# Altium footprint library grov_pcb_card.PcbLib: 34 footprints (part 2 of 3)
Each footprint in its own frame and in the unit in brackets; x right, y up, seen from the top. Pads: shape width x height; smd on the part's side, far side on the other; paste and mask are expansions set on the pad; w line width, h text height; cw(c..) or ccw(c..) is an arc to the next point about the centre after c.
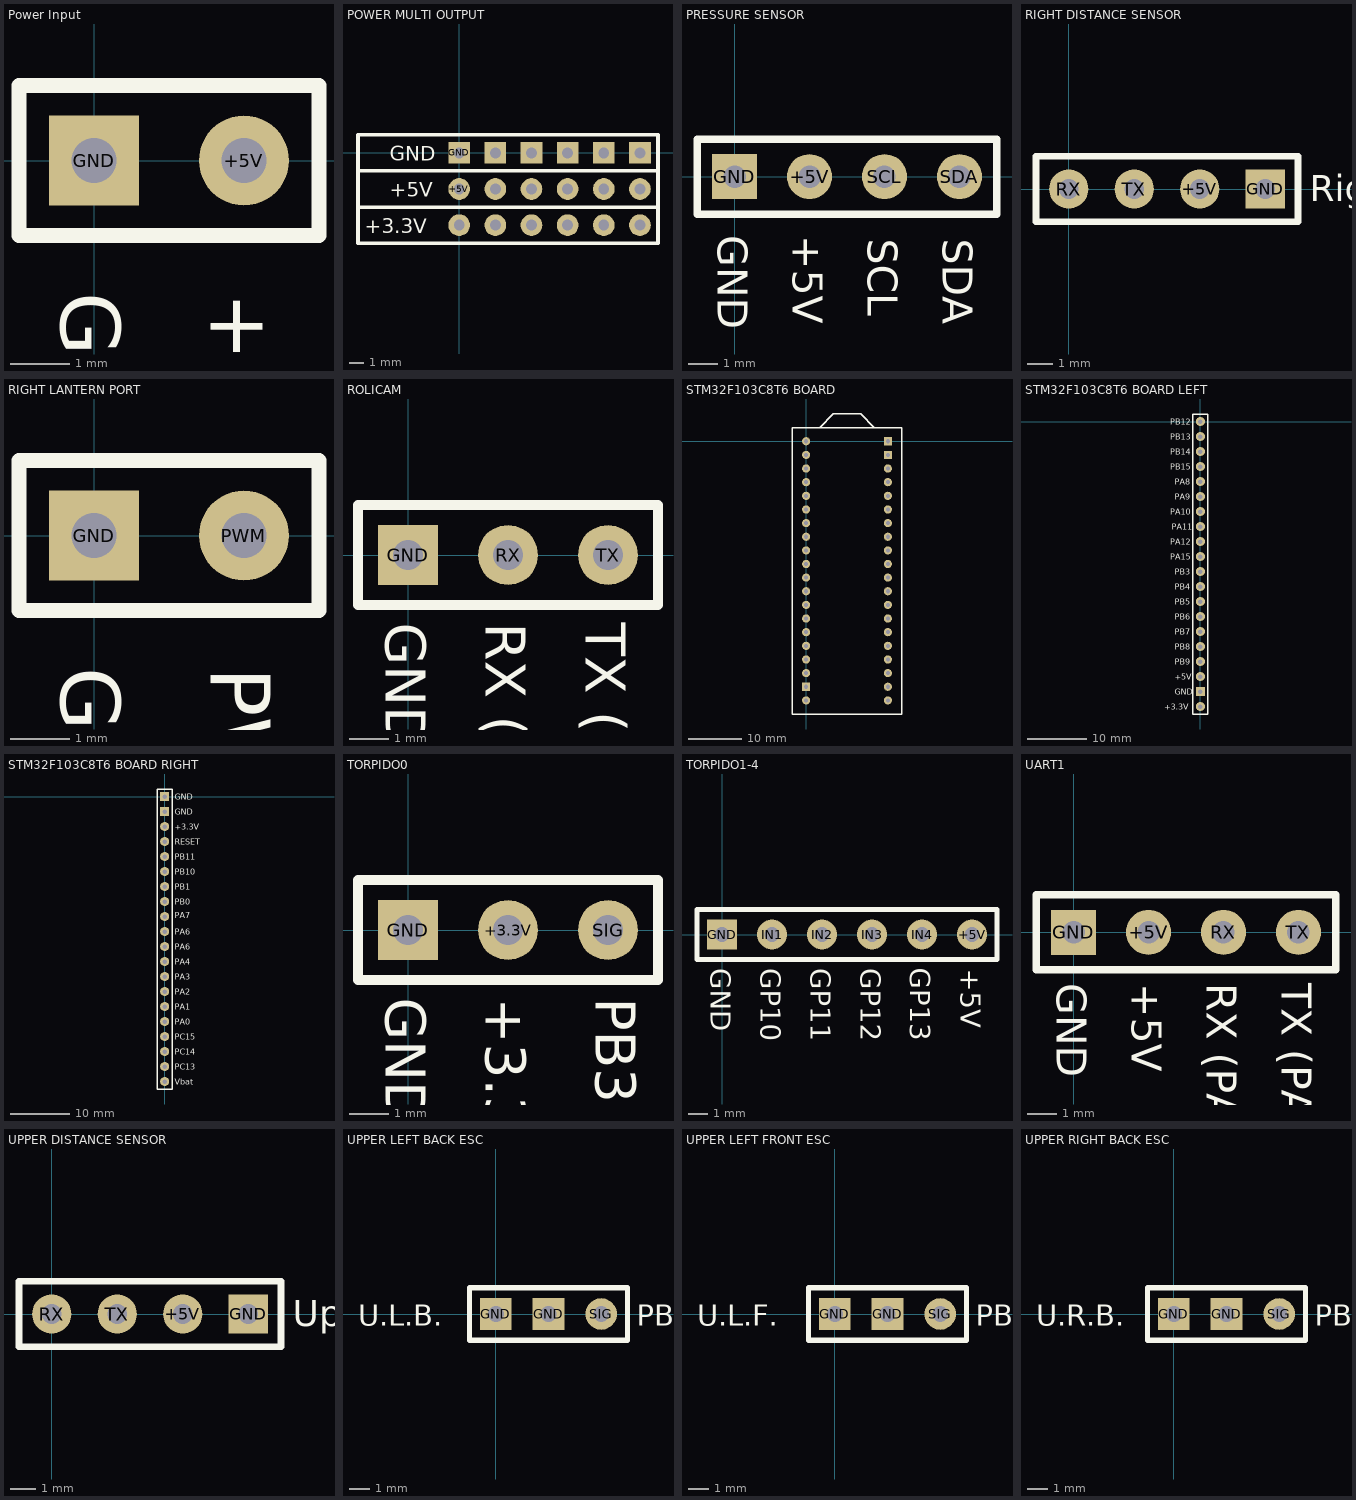
[diagram p1: the footprints below, top view; thin cyan lines are the x and y axes]

## Power Input [mil]
pads (2):
  round 60 hole 30: +5V(100,0)
  rect 60x60 hole 30: GND(0,0)
Top Overlay:
  lines w10: -50,-50 150,-50 150,50 -50,50 -50,-50
  text "GND" at -22,-87.99 h40
  text "+5V" at 78,-88 h40
3D body "2 pin 1 Row 2.54mm Male Pin Header.stp": height 355, standoff -90, extent -50,-50 150,50

## POWER MULTI OUTPUT [mil]
pads (18):
  round 60 hole 30: +3.3V(0,-200) +3.3V_2(100,-200) +3.3V_3(200,-200) +3.3V_4(300,-200) +3.3V_5(400,-200) +3.3V_6(500,-200) +5V(0,-100) +5V_2(100,-100) +5V_3(200,-100) +5V_4(300,-100) +5V_5(400,-100) +5V_6(500,-100)
  rect 60x60 hole 30: GND(0,0) GND_2(100,0) GND_3(200,0) GND_4(300,0) GND_5(400,0) GND_6(500,0)
Top Overlay:
  lines w10: -280,-250 550,-250 ; -280,-250 -280,50 ; -280,-250 -280,-150 ; -280,-250 550,-250 ; -280,-150 550,-150 ; -280,-150 -280,-50 ; -280,-150 550,-150 ; -280,-50 550,-50 ; -280,-50 -280,50 ; -280,-50 550,-50 ; -280,50 550,50 ; -280,50 550,50 ; 550,-250 550,50 ; 550,-250 550,-150 ; 550,-150 550,-50 ; 550,-50 550,50
  text "+3.3V" at -262,-222 h40
  text "+5V" at -192,-122 h40
  text "GND" at -192,-22 h40
3D body "18 pin 3 Row 2.54mm Male Pin Header.stp": height 330, standoff -100, extent -50,-248 550,50

## PRESSURE SENSOR [mil]
pads (4):
  round 60 hole 30: +5V(100,0) SCL(200,0) SDA(300,0)
  rect 60x60 hole 30: GND(0,0)
Top Overlay:
  lines w10: -50,-50 350,-50 350,50 -50,50 -50,-50
  text "GND" at -22,-77.99 h40
  text "+5V" at 78,-78 h40
  text "SDA" at 278,-83 h40
  text "SCL" at 178,-83 h40
3D body "4 pin 1 Row 2.54mm Male Pin Header.stp": height 330, standoff -115, extent -50,-48 350,50

## RIGHT DISTANCE SENSOR [mil]
pads (4):
  round 60 hole 30: +5V(200,0) RX(0,0) TX(100,0)
  rect 60x60 hole 30: GND(300,0)
Top Overlay:
  lines w10: -50,-50 350,-50 350,50 -50,50 -50,-50
  text "Right" at 368,-18.67 h40
3D body "4 pin 1 Row 2.54mm Male Pin Header.stp": height 330, standoff -115, extent -50,-49 350,49

## RIGHT LANTERN PORT [mil]
pads (2):
  rect 60x60 hole 30: GND(0,0)
  round 60 hole 30: PWM(100,0)
Top Overlay:
  lines w10: -50,-50 -50,50 150,50 150,-50 -50,-50
  text "GND" at -22,-87.99 h40
  text "PWM (PB0)" at 78,-88 h40
3D body "2 pin 1 Row 2.54mm Male Pin Header.stp": height 355, standoff -90, extent -50,-50 150,50

## ROLICAM [mil]
pads (3):
  rect 60x60 hole 30: GND(0,0)
  round 60 hole 30: RX(100,0) TX(200,0)
Top Overlay:
  lines w10: -50,-50 250,-50 250,50 -50,50 -50,-50
  text "TX (PB10)" at 178,-68 h40
  text "GND" at -22,-68 h40
  text "RX (PB11)" at 78,-68 h40
3D body "TSW-101-26-L-T.stp": height 330, standoff -126, extent -50,-50 250,50

## STM32F103C8T6 BOARD [mil]
pads (40):
  round 60 hole 30: +3.3V(0,-1900) +3.3V(600,-200) +5V(0,-1700) PA0(600,-1500) PA1(600,-1400) PA2(600,-1300) PA3(600,-1200) PA4(600,-1100) PA5(600,-1000) PA6(600,-900) PA7(600,-800) PA8(0,-400) PA9(0,-500) PA10(0,-600) PA11(0,-700) PA12(0,-800) PA15(0,-900) PB0(600,-700) PB1(600,-600) PB3(0,-1000) PB4(0,-1100) PB5(0,-1200) PB6(0,-1300) PB7(0,-1400) PB8(0,-1500) PB9(0,-1600) PB10(600,-500) PB11(600,-400) PB12(0,0) PB13(0,-100) PB14(0,-200) PB15(0,-300) PC13(600,-1800) PC14(600,-1700) PC15(600,-1600) RESET(600,-300) Vbat(600,-1900)
  rect 60x60 hole 30: GND(0,-1800) GND(600,-100) GND(600,0)
Top Overlay:
  lines w10: 100,100 200,200 400,200 500,100 ; -100,-2000 700,-2000 700,100 -100,100 -100,-2000
3D body "20 pin 1 Row 2.54mm Female Pin Header.STEP": height 250, standoff -140, extent 530,-1950 670,50
3D body "20 pin 1 Row 2.54mm Female Pin Header.STEP": height 250, standoff -140, extent -70,-1950 70,50
3D body "stm32f103c8t6-board.SLDPRT": height 703.27, standoff 33.98, extent -152.76,-2200 752.76,75.59

## STM32F103C8T6 BOARD LEFT [mil]
pads (20):
  round 60 hole 30: +3.3V(0,-1900) +5V(0,-1700) PA8(0,-400) PA9(0,-500) PA10(0,-600) PA11(0,-700) PA12(0,-800) PA15(0,-900) PB3(0,-1000) PB4(0,-1100) PB5(0,-1200) PB6(0,-1300) PB7(0,-1400) PB8(0,-1500) PB9(0,-1600) PB12(0,0) PB13(0,-100) PB14(0,-200) PB15(0,-300)
  rect 60x60 hole 30: GND(0,-1800)
Top Overlay:
  lines w10: -50,-1950 50,-1950 50,50 -50,50 -50,-1950
  text "+3.3V" at -242,-1922 h40
  text "GND" at -172,-1822 h40
  text "+5V" at -172,-1722 h40
  text "PB9" at -172,-1622 h40
  text "PA15" at -202,-922 h40
  text "PA11" at -192,-722 h40
  text "PA10" at -202,-622 h40
  text "PA9" at -172,-522 h40
  text "PA8" at -172,-422 h40
  text "PB15" at -202,-322 h40
  text "PB14" at -202,-222 h40
  text "PB13" at -202,-122 h40
  text "PB12" at -202,-22 h40
  text "PA12" at -202,-822 h40
  text "PB3" at -172,-1022 h40
  text "PB4" at -172,-1122 h40
  text "PB5" at -172,-1222 h40
  text "PB6" at -172,-1322 h40
  text "PB7" at -172,-1422 h40
  text "PB8" at -172,-1522 h40
3D body "20 pin 1 Row 2.54mm Male Pin Header.stp": height 330, standoff -115, extent -49,-1950 49,50

## STM32F103C8T6 BOARD RIGHT [mil]
pads (20):
  round 60 hole 30: +3.3V(0,-200) PA0(0,-1500) PA1(0,-1400) PA2(0,-1300) PA3(0,-1200) PA4(0,-1100) PA5(0,-1000) PA6(0,-900) PA7(0,-800) PB0(0,-700) PB1(0,-600) PB10(0,-500) PB11(0,-400) PC13(0,-1800) PC14(0,-1700) PC15(0,-1600) RESET(0,-300) Vbat(0,-1900)
  rect 60x60 hole 30: GND(0,-100) GND(0,0)
Top Overlay:
  lines w10: -50,-1950 -50,50 50,50 50,-1950 -50,-1950
  text "PA0" at 68,-1522 h40
  text "PA1" at 68,-1422 h40
  text "PA3" at 68,-1222 h40
  text "PA4" at 68,-1122 h40
  text "PA6" at 68,-1022 h40
  text "PB10" at 68,-522 h40
  text "PB11" at 68,-422 h40
  text "RESET" at 68,-322 h40
  text "+3.3V" at 68,-222 h40
  text "GND" at 68,-22 h40
  text "PB1" at 68,-622 h40
  text "PB0" at 68,-722 h40
  text "PA7" at 68,-812 h40
  text "PA6" at 68,-922 h40
  text "GND" at 68,-122 h40
  text "PA2" at 68,-1322 h40
  text "PC15" at 68,-1622 h40
  text "PC14" at 68,-1722 h40
  text "PC13" at 68,-1822 h40
  text "Vbat" at 68,-1922 h40
3D body "20 pin 1 Row 2.54mm Male Pin Header.stp": height 330, standoff -115, extent -49,-1950 49,50

## TORPIDO0 [mil]
pads (3):
  round 60 hole 30: +3.3V(100,0) SIG(200,0)
  rect 60x60 hole 30: GND(0,0)
Top Overlay:
  lines w10: -50,-50 250,-50 250,50 -50,50 -50,-50
  text "GND" at -22,-68 h40
  text "+3.3V" at 78,-68 h40
  text "PB3" at 188,-68 h40
3D body "TSW-101-26-L-T.stp": height 330, standoff -126, extent -50,-50 250,50

## TORPIDO1-4 [mil]
pads (6):
  round 60 hole 30: +5V(500,0) IN1(100,0) IN2(200,0) IN3(300,0) IN4(400,0)
  rect 60x60 hole 30: GND(0,0)
Top Overlay:
  lines w10: -50,-50 550,-50 550,50 -50,50 -50,-50
  text "GND" at -22,-68 h40
  text "+5V" at 478,-68 h40
  text "GP10" at 78,-68 h40
  text "GP11" at 178,-68 h40
  text "GP12" at 278,-68 h40
  text "GP13" at 376.52,-66.64 h40
3D body "61300611121.stp": height 336.22, standoff -118.11, extent -50,-50 550,50

## UART1 [mil]
pads (4):
  round 60 hole 30: +5V(100,0) RX(200,0) TX(300,0)
  rect 60x60 hole 30: GND(0,0)
Top Overlay:
  lines w10: -50,-50 350,-50 350,50 -50,50 -50,-50
  text "TX (PA9)" at 278,-68 h40
  text "GND" at -22,-68 h40
  text "RX (PA10)" at 178,-68 h40
  text "+5V" at 78,-68 h40
3D body "4 pin 1 Row 2.54mm Male Pin Header.stp": height 330, standoff -115, extent -50,-49 350,49

## UPPER DISTANCE SENSOR [mil]
pads (4):
  round 60 hole 30: +5V(200,0) RX(0,0) TX(100,0)
  rect 60x60 hole 30: GND(300,0)
Top Overlay:
  lines w10: -50,-50 350,-50 350,50 -50,50 -50,-50
  text "Upper" at 368,-18.67 h40
3D body "4 pin 1 Row 2.54mm Male Pin Header.stp": height 330, standoff -115, extent -50,-49 350,49

## UPPER LEFT BACK ESC [mil]
pads (3):
  rect 60x60 hole 30: GND(0,0) GND(100,0)
  round 60 hole 30: SIG(200,0)
Top Overlay:
  lines w10: -50,-50 250,-50 250,50 -50,50 -50,-50
  text "U.L.B." at -262,-22 h40
  text "PB15" at 268,-22 h40
3D body "3 pin 1 Row 2.54mm Male Pin Header.stp": height 350, standoff -80, extent -50,-50 250,50

## UPPER LEFT FRONT ESC [mil]
pads (3):
  rect 60x60 hole 30: GND(0,0) GND(100,0)
  round 60 hole 30: SIG(200,0)
Top Overlay:
  lines w10: -50,-50 -50,50 250,50 250,-50 -50,-50
  text "PB13" at 268,-22 h40
  text "U.L.F." at -262,-22 h40
3D body "3 pin 1 Row 2.54mm Male Pin Header.stp": height 350, standoff -80, extent -50,-50 250,50

## UPPER RIGHT BACK ESC [mil]
pads (3):
  rect 60x60 hole 30: GND(0,0) GND(100,0)
  round 60 hole 30: SIG(200,0)
Top Overlay:
  lines w10: -50,-50 250,-50 250,50 -50,50 -50,-50
  text "U.R.B." at -262,-22 h40
  text "PB14" at 268,-22 h40
3D body "3 pin 1 Row 2.54mm Male Pin Header.stp": height 350, standoff -80, extent -50,-50 250,50